# Altium schematic symbol library connectors.SchLib: 12 symbols
Pins are listed as number, name and electrical type; pins without a type are passive.

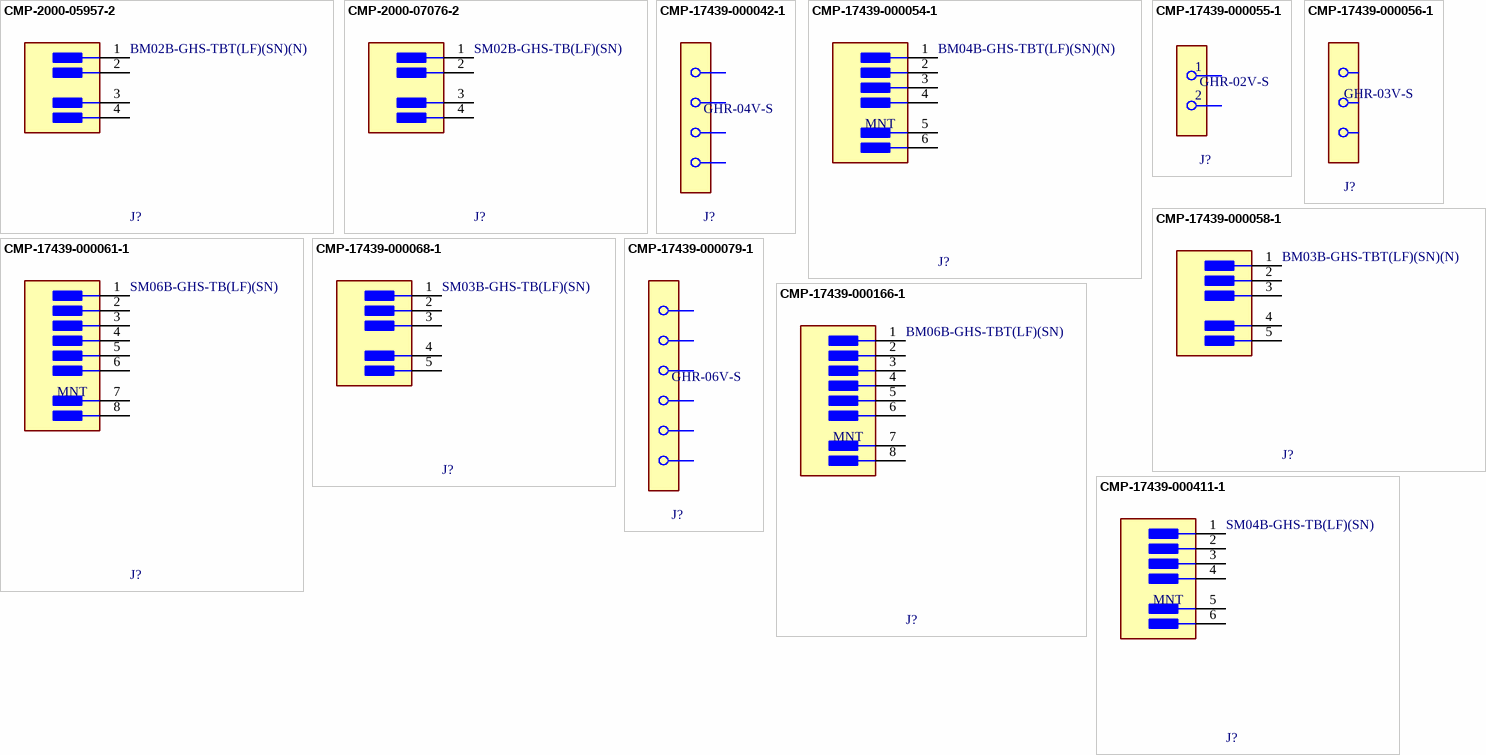
[diagram p0: symbols CMP-2000-05957-2 to CMP-17439-000411-1]

## CMP-2000-05957-2
designator J?, comment BM02B-GHS-TBT(LF)(SN)(N)
2p; Pitch: 0.049inch; Connector Type: Outer Shroud Contact; Number of Positions: 2; Packaging: Tape and Reel; Lead Free: Lead Free; Termination: Solder; Fastening Type: Ramp; Number of Rows: 1; Color: Natural; Contact Plating: Tin; Mount: Surface Mount
footprint FP-BM02B-GHS-TBT_LF_SN-MFG
footprint FP-SM02B-GHS-TB_LF_SN-MFG
pins: 1, 2, 3 MNT 1, 4 MNT 2

## CMP-2000-07076-2
designator J?, comment SM02B-GHS-TB(LF)(SN)
2p R/A; Voltage Rating: 50V; Number of Positions: 2; Pitch: 0.049inch; Current Rating: 1A; Connector Type: Outer Shroud Contact; Number of Rows: 1; Contact Material: Bronze; Termination: Solder; Color: Natural; Package Quantity: 2500; Mount: Surface Mount; Housing Color: Natural; Number of Contacts: 2; Packaging: Tape and Reel; Lead Free: Lead Free; Housing Material: Nylon; Orientation: Right Angle; Contact Type: Male Pin; Contact Plating: Tin; Series: GH; Fastening Type: Latch
footprint FP-SM02B-GHS-TB_LF_SN-MFG
pins: 1, 2, 3 MNT 1, 4 MNT 2

## CMP-17439-000042-1
designator J?, comment GHR-04V-S
CONN GH HOUSING 4POS 1.25MM; Number of Contacts: 4; Pitch: 0.049inch; Connector Type: Receptacle; Series: GH; Contact Plating: Tin; Lead Free: Lead Free; Depth: 5.7mm; Number of Positions: 4; Mount: Free Hanging; Contact Type: Female Socket; REACH SVHC: No SVHC; Packaging: Bulk; Housing Color: Natural; Contact Material: Bronze; Color: Natural; Width: 4.15mm; Length: 6.25mm; Fastening Type: Latch; Housing Material: PBT; Termination: Crimp; Gender: Receptacle; Number of Rows: 1
footprint FP-GHR-04V-S-MFG

## CMP-17439-000054-1
designator J?, comment BM04B-GHS-TBT(LF)(SN)(N)
4p; Number of Positions: 4; Pitch: 0.049inch; Connector Type: Outer Shroud Contact; Termination: Solder; Number of Pins: 4; Color: Natural; Number of Rows: 1; Lead Free: Lead Free; Mount: Surface Mount; Contact Plating: Tin; Packaging: Tape and Reel; Fastening Type: Ramp
footprint FP-BM04B-GHS-TBT_LF_SN-MFG
footprint FP-SM04B-GHS-TB_LF_SN-MFG
pins: 1, 2, 3, 4, 5 MNT 1, 6 MNT 2
text: MNT

## CMP-17439-000055-1
designator J?, comment GHR-02V-S
CONN GH HOUSING 2POS 1.25MM; Pitch: 0.049inch; Gender: Receptacle; Number of Contacts: 2; Packaging: Bulk; REACH SVHC: No SVHC; Number of Rows: 1; Housing Material: PBT; Termination: Crimp; Color: Natural; Series: GH; Fastening Type: Latch; Length: 3.75mm; Contact Material: Bronze; Contact Type: Female Socket; Depth: 5.7mm; Mount: Free Hanging; Width: 4.15mm; Contact Plating: Tin; Connector Type: Receptacle; Housing Color: Natural; Lead Free: Lead Free; Number of Positions: 2
footprint FP-GHR-02V-S-MFG

## CMP-17439-000056-1
designator J?, comment GHR-03V-S
CONN GH HOUSING 3POS 1.25MM; Voltage Rating (AC): 50V; Pitch: 0.049inch; Number of Contacts: 3; Wire/Cable Gauge: 26AWG; Connector Type: Receptacle; Current Rating: 1A; Housing Color: Natural; Contact Type: Female Socket; Fastening Type: Latch; Lead Free: Lead Free; Number of Rows: 1; Length: 5mm; Series: GH; Width: 4.15mm; Depth: 5.7mm; Mount: Free Hanging; Contact Plating: Tin; Color: Natural; Termination: Crimp; Min Operating Temperature: -25°C; Contact Material: Bronze; REACH SVHC: No SVHC; Max Operating Temperature: 85°C; Packaging: Bulk; Gender: Receptacle; Housing Material: PBT; Number of Positions: 3
footprint FP-GHR-03V-S-MFG

## CMP-17439-000058-1
designator J?, comment BM03B-GHS-TBT(LF)(SN)(N)
3p; Pitch: 0.049inch; Number of Positions: 3; Connector Type: Header; Contact Finish - Mating: TIN; Lead Free: Lead Free; Series: GH; Fastening Type: Ramp; Number of Rows: 1; Insulation Color: Natural; Contact Material: Bronze; Insulation Material: Nylon; Min Operating Temperature: -25°C; Contact Type: Outer Shroud Contact; Max Operating Temperature: 85°C; Termination: Solder; Flammability Rating: UL94 V-0; Color: Natural; Contact Plating: Tin; Contact Shape: Rectangular; Mount: Surface Mount; Packaging: Cut Tape
footprint FP-BM03B-GHS-TBT_LF_SN-MFG
footprint FP-SM03B-GHS-TB_LF_SN-MFG
pins: 1, 2, 3, 4 MNT 1, 5 MNT 2

## CMP-17439-000061-1
designator J?, comment SM06B-GHS-TB(LF)(SN)
6p R/A; Number of Contacts: 6; Voltage Rating: 50V; Current Rating: 1A; Connector Type: Outer Shroud Contact; Pitch: 1.25mm; Contact Resistance: 50mR; Orientation: Right Angle; Max Operating Temperature: 85°C; Mount: Surface Mount; Packaging: Tape and Reel; Contact Plating: Tin; Depth: 4.05mm; Max Voltage Rating (AC): 50V; Lead Free: Lead Free; Number of Positions: 6; Max Current Rating: 1A; Termination: Solder; Min Operating Temperature: -25°C; Housing Color: Beige; Fastening Type: Ramp; Length: 10.75mm; Color: Natural; Contact Material: Bronze; Housing Material: Polyamide; Number of Rows: 1
footprint FP-SM06B-GHS-TB_LF_SN-MFG
pins: 1, 2, 3, 4, 5, 6, 7 MNT 1, 8 MNT 2
text: MNT

## CMP-17439-000068-1
designator J?, comment SM03B-GHS-TB(LF)(SN)
3p R/A; Voltage Rating: 50V; Wire/Cable Gauge: 26AWG; Pitch: 0.049inch; Gender: Male; Number of Positions: 3; Connector Type: Header; Current Rating: 1A; Orientation: Right Angle; REACH SVHC: No SVHC; Insulation Color: Natural; Housing Material: Nylon; Mount: Surface Mount; Flammability Rating: UL94 V-0; Color: Natural; Number of Rows: 1; Housing Color: Natural; Termination: Solder; Voltage Rating (AC): 50V; Max Operating Temperature: 85°C; Series: GH; Packaging: Tape and Reel; Contact Finish - Mating: TIN; Lead Free: Lead Free; Fastening Type: Ramp; Contact Plating: Tin; Contact Material: Bronze; Insulation Material: Nylon; Contact Type: Outer Shroud Contact; Number of Contacts: 3; Min Operating Temperature: -25°C; Contact Shape: Rectangular
footprint FP-SM03B-GHS-TB_LF_SN-MFG
pins: 1, 2, 3, 4 MNT 1, 5 MNT 2

## CMP-17439-000079-1
designator J?, comment GHR-06V-S
CONN GH HOUSING 6POS 1.25MM; Wire/Cable Gauge: 26AWG; Current Rating: 1A; Connector Type: Receptacle; Pitch: 0.049inch; Number of Contacts: 6; Voltage Rating (AC): 50V; Width: 4.15mm; Mount: Free Hanging; Fastening Type: Latch; REACH SVHC: No SVHC; Color: Natural; Housing Material: PBT; Contact Material: Bronze; Number of Rows: 1; Min Operating Temperature: -25°C; Contact Plating: Tin; Depth: 5.7mm; Housing Color: Natural; Termination: Crimp; Contact Type: Female Socket; Series: GH; Packaging: Bulk; Max Operating Temperature: 85°C; Number of Positions: 6; Lead Free: Lead Free; Length: 8.75mm
footprint FP-GHR-06V-S-MFG

## CMP-17439-000166-1
designator J?, comment BM06B-GHS-TBT(LF)(SN)
6p; Pitch: 1.25mm; Number of Contacts: 6; Current Rating: 1A; Voltage Rating: 50V; Housing Material: Nylon; Lead Free: Lead Free; Packaging: Cut Tape; Number of Rows: 1; Series: GH; Contact Material: Bronze; Orientation: Straight; Termination: Solder; Mount: Surface Mount; Housing Color: Natural; Number of Positions: 6
footprint FP-BM06B-GHS-TBT_LF_SN-MFG
footprint FP-SM06B-GHS-TB_LF_SN-MFG
pins: 1, 2, 3, 4, 5, 6, 7 MNT 1, 8 MNT 2
text: MNT

## CMP-17439-000411-1
designator J?, comment SM04B-GHS-TB(LF)(SN)
4p R/A; Voltage Rating: 50V; Pitch: 1.25mm; Number of Contacts: 4; Current Rating: 1A; Termination: Solder; Mount: Surface Mount; REACH SVHC: No SVHC; Packaging: Cut Tape; Contact Material: Bronze; Series: GH; Orientation: Right Angle; Lead Free: Lead Free; Housing Material: Nylon; Contact Plating: Tin; Housing Color: Natural; Number of Rows: 1; Number of Positions: 4
footprint FP-SM04B-GHS-TB_LF_SN-MFG
pins: 1, 2, 3, 4, 5 MNT 1, 6 MNT 2
text: MNT